# Altium schematic symbol library ECGLib.SchLib: 26 symbols
Pins are listed as number, name and electrical type; pins without a type are passive.

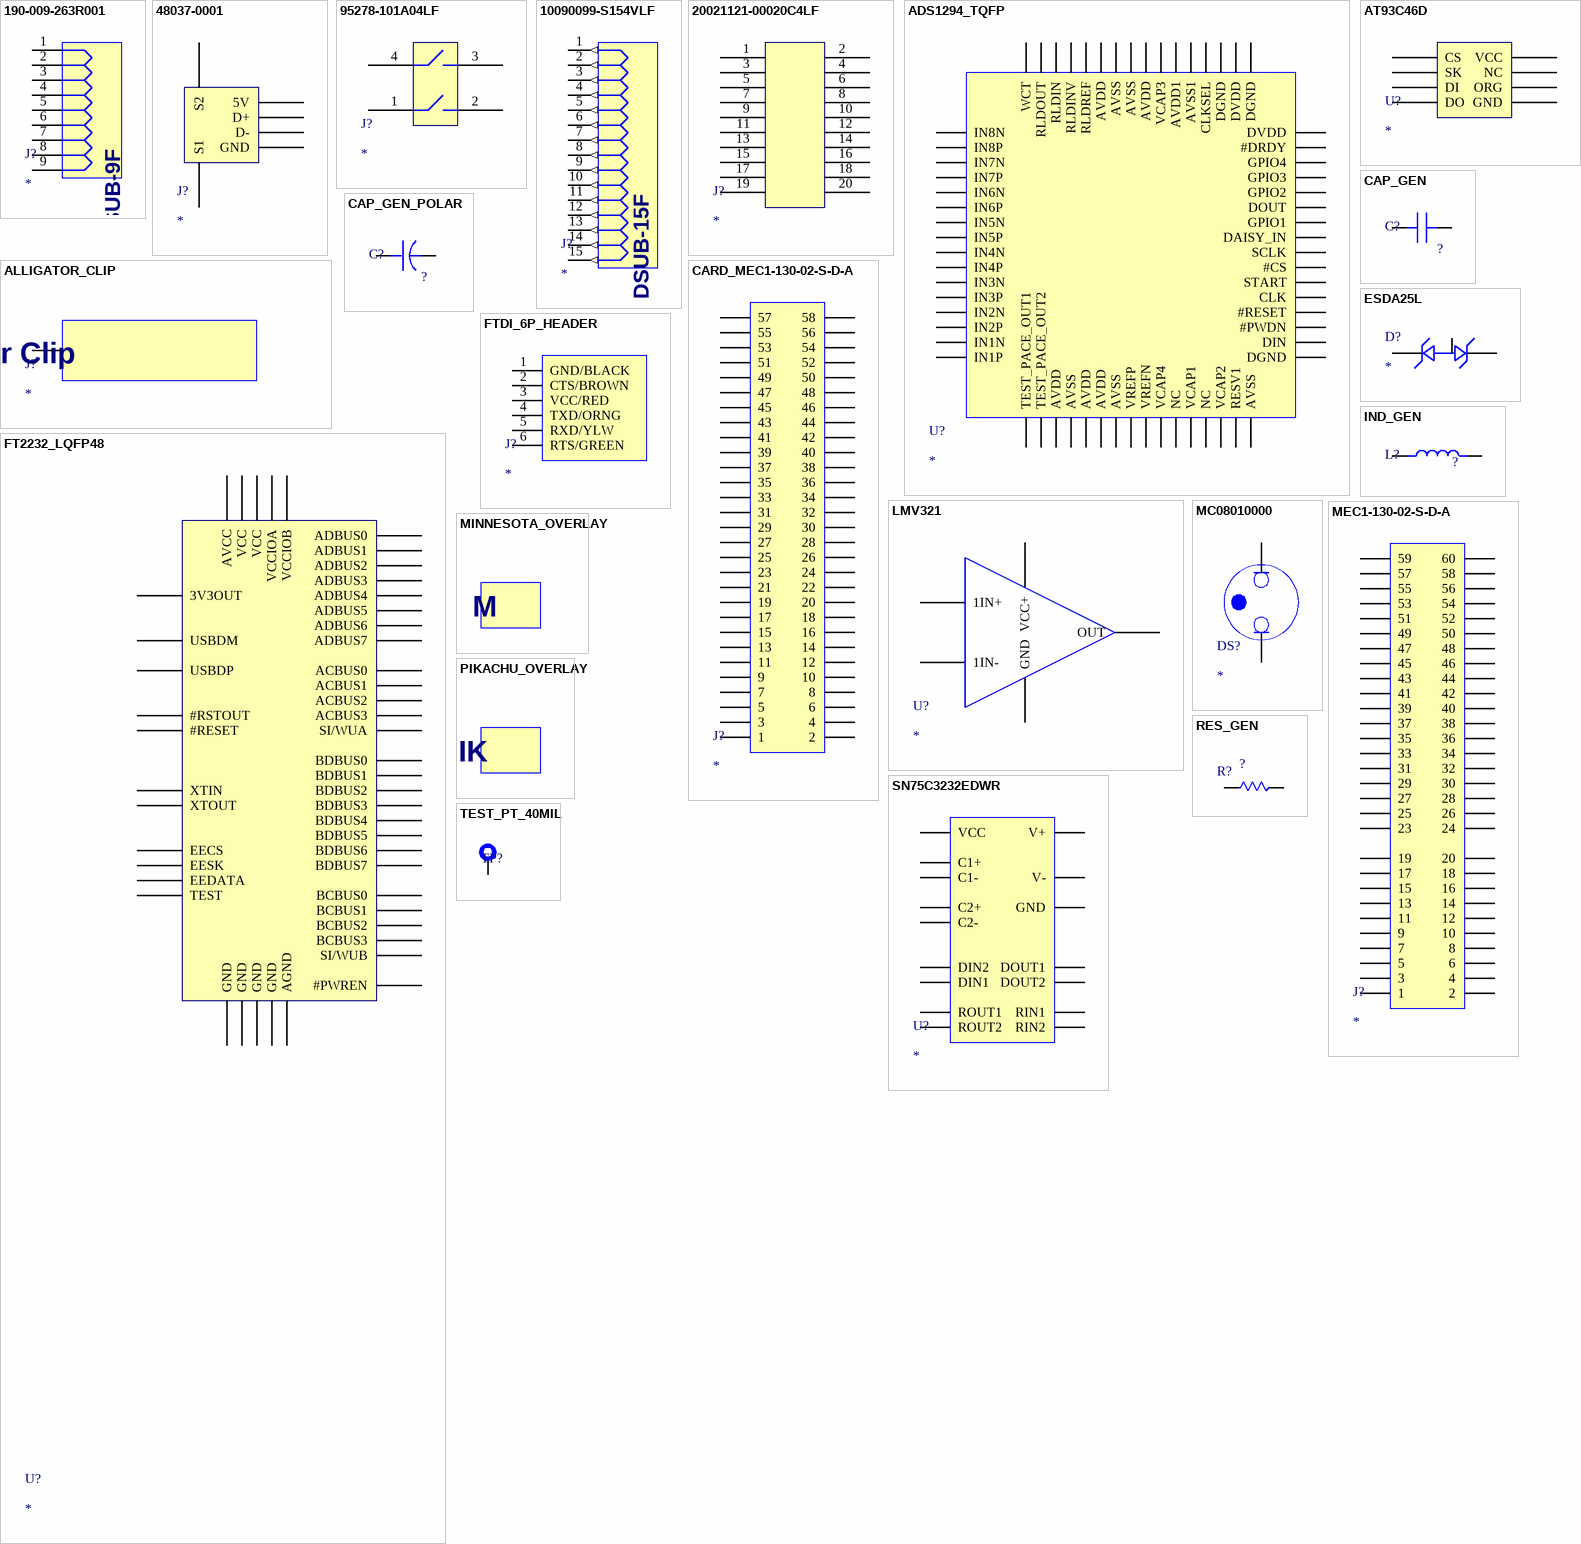
[diagram p0: symbols 190-009-263R001 to TEST_PT_40MIL]

## 190-009-263R001
designator J?
CONN DB9 FEMALE R/A SOLDER SMD; Manufacturer Part Number: 190-009-263R001; Manufacturer: Norcomp Inc
footprint 190-009-263R001 (CONN DB9 FEMALE R/A SOLDER SMD)
pins: 1, 2, 3, 4, 5, 6, 7, 8, 9
text: DSUB-9F

## 48037-0001
designator J?
CONN PLUG USB 4POS RT ANG PCB; Manufacturer: Molex; Manufacturer Part Number: 48037-0001
footprint USB_A_PLUG (CONN PLUG USB 4POS RT ANG PCB)
pins: 1 5V, 2 D+, 3 D-, 4 GND, 5 S1, 6 S2

## 95278-101A04LF
designator J?
CONN HEADER 4POS .100" DL SMD; Manufacturer: FCI; Manufacturer Part Number: 95278-101A04LF
footprint 95278-101A04LF (CONN HEADER 4POS .100" DL SMD)
pins: 1, 2, 3, 4

## 10090099-S154VLF
designator J?
CONN DSUB RCPT 15POS R/A GOLD; Manufacturer Part Number: 10090099-S154VLF; Manufacturer: FCI
footprint 10090099-S154VLF (CONN DSUB RCPT 15POS R/A GOLD)
pins: 1 (out), 2 (out), 3 (out), 4 (out), 5 (out), 6 (out), 7 (out), 8 (out), 9 (out), 10 (out), 11 (out), 12 (out), 13 (out), 14 (out), 15 (out)
text: DSUB-15F

## 20021121-00020C4LF
designator J?
CONN HEADER 20POS DL UNSHRD SMD; Manufacturer: FCI; Manufacturer Part Number: 20021121-00020C4LF
footprint 20021121-00020C4LF (CONN HEADER 20POS DL UNSHRD SMD)
pins: 1, 2, 3 2, 4 3, 5 3, 6 4, 7 4, 8 5, 9 5, 10 6, 11 6, 12 7, 13 7, 14 8, 15 8, 16 9, 17 9, 18 10, 19 10, 20 11

## ADS1294_TQFP
designator U?
IC AFE 24BIT 32KSPS 4CH 64TQFP; Manufacturer: Texas Instruments; Manufacturer Part Number: ADS1294IPAG
footprint TQFP_64_HD (TSQFP, 64-Leads, Body 12.2x12.2mm (max), Pitch 0.50mm, IPC High Density)
pins: 1 IN8N, 2 IN8P, 3 IN7N, 4 IN7P, 5 IN6N, 6 IN6P, 7 IN5N, 8 IN5P, 9 IN4N, 10 IN4P, 11 IN3N, 12 IN3P, 13 IN2N, 14 IN2P, 15 IN1N, 16 IN1P, 17 TEST_PACE_OUT1, 18 TEST_PACE_OUT2, 19 AVDD, 20 AVSS, 21 AVDD, 22 AVDD, 23 AVSS, 24 VREFP, 25 VREFN, 26 VCAP4, 27 NC, 28 VCAP1, 29 NC, 30 VCAP2, 31 RESV1, 32 AVSS, 33 DGND, 34 DIN, 35 #PWDN, 36 #RESET, 37 CLK, 38 START, 39 #CS, 40 SCLK, 41 DAISY_IN, 42 GPIO1, 43 DOUT, 44 GPIO2, 45 GPIO3, 46 GPIO4, 47 #DRDY, 48 DVDD, 49 DGND, 50 DVDD, 51 DGND, 52 CLKSEL, 53 AVSS1, 54 AVDD1, 55 VCAP3, 56 AVDD, 57 AVSS, 58 AVSS, 59 AVDD, 60 RLDREF, 61 RLDINV, 62 RLDIN, 63 RLDOUT, 64 WCT

## ALLIGATOR_CLIP
designator J?
Alligator Clip Pad
footprint ALLIGATOR_CLIP_PAD (Pad for Alligator Clip on PCB)
pins: 1
text: Alligator Clip

## AT93C46D
designator U?
IC EEPROM 1KBIT 2MHZ 8SOIC; Manufacturer: Atmel; Manufacturer Part Number: AT93C46DN-SH-B
footprint SOIC_8_HD (SOIC, 8-Leads, Body 4.92x3.90mm, Pitch 1.27mm, IPC High Density)
pins: 1 CS, 2 SK, 3 DI, 4 DO, 5 GND, 6 ORG, 7 NC, 8 VCC

## CAP_GEN
designator C?  (value not drawn)
Generic Capacitor; Manufacturer: ?; Manufacturer Part Number: ?; Value: ?
pins: 1, 2

## CAP_GEN_POLAR
designator C?  (value not drawn)
Generic Polar Capacitor; Manufacturer: ?; Manufacturer Part Number: ?; Value: ?
pins: 1, 2

## CARD_MEC1-130-02-S-D-A
designator J?
CONN EDGE CARD DL 1MM 60POS SMD; Manufacturer: Samtec
footprint CARD_MEC1-130-02-S-D-A (CONN EDGE CARD DL 1MM 60POS SMD)
pins: 1, 2, 3, 4, 5, 6, 7, 8, 9, 10, 11, 12, 13, 14, 15, 16, 17, 18, 19, 20, 21, 22, 23, 24, 25, 26, 27, 28, 29, 30, 31, 32, 33, 34, 35, 36, 37, 38, 39, 40, 41, 42, 43, 44, 45, 46, 47, 48, 49, 50, 51, 52, 53, 54, 55, 56, 57, 58

## ESDA25L
designator D?
TRANSIL ARRAY DUAL ESD SOT-23; Manufacturer Part Number: ESDA25L; Manufacturer: STMicroelectronics
footprint SOT23_3_HD (SOT23, 3-Leads, Body 3.0x2.8mm (max), Pitch 0.95mm, IPC High Density)
pins: 1, 2, 3 NC

## FT2232_LQFP48
designator U?
IC USB FS DUAL UART/FIFO 48-LQFP; Manufacturer: FTDI; Manufacturer Part Number: FT2232D
footprint LQFP_48_HD (TSQFP, 48-Leads, Body 7.00x7.00mm, Pitch 0.50mm, IPC High Density)
pins: 1 EESK, 2 EEDATA, 3 VCC, 4 #RESET, 5 #RSTOUT, 6 3V3OUT, 7 USBDP, 8 USBDM, 9 GND, 10 SI/WUA, 11 ACBUS3, 12 ACBUS2, 13 ACBUS1, 14 VCCIOA, 15 ACBUS0, 16 ADBUS7, 17 ADBUS6, 18 GND, 19 ADBUS5, 20 ADBUS4, 21 ADBUS3, 22 ADBUS2, 23 ADBUS1, 24 ADBUS0, 25 GND, 26 SI/WUB, 27 BCBUS3, 28 BCBUS2, 29 BCBUS1, 30 BCBUS0, 31 VCCIOB, 32 BDBUS7, 33 BDBUS6, 34 GND, 35 BDBUS5, 36 BDBUS4, 37 BDBUS3, 38 BDBUS2, 39 BDBUS1, 40 BDBUS0, 41 #PWREN, 42 VCC, 43 XTIN, 44 XTOUT, 45 AGND, 46 AVCC, 47 TEST, 48 EECS

## FTDI_6P_HEADER
designator J?
6 PIN FTDI HEADER; Manufacturer: Sullins Connector Solutions; Manufacturer Part Number: GEC36SBSN-M89
footprint GEC36SBSN-M89 (6PIN_0.1"_RIGHTANGLE_SM)
pins: 1 GND/BLACK, 2 CTS/BROWN, 3 VCC/RED, 4 TXD/ORNG, 5 RXD/YLW, 6 RTS/GREEN

## IND_GEN
designator L?  (value not drawn)
Generic Inductor; Manufacturer: ?; Manufacturer Part Number: ?; Value: ?
pins: 1, 2

## LMV321
designator U?
IC OPAMP GP R-R 1MHZ SGL SOT23-5; Manufacturer: Texas Instruments; Manufacturer Part Number: LMV321IDBVR
footprint SOT23_5 (SOT23, 5-Leads, Body 2.90x2.80mm, Pitch 0.95mm, IPC High Density)
pins: 1 1IN+, 2 GND, 3 1IN-, 4 OUT, 5 VCC+

## MC08010000
designator DS?
LAMP, NEON, T-1 1/4, WIRE; Manufacturer: Multicomp; Manufacturer Part Number: MC08010000
footprint MC08010000
footprint MC08010000
pins: 1, 2

## MEC1-130-02-S-D-A
designator J?
CONN EDGE CARD DL 1MM 60POS SMD; Manufacturer: Samtec; Manufacturer Part Number: MEC1-130-02-S-D-A
footprint MEC1-130-02-S-D-A (CONN EDGE CARD DL 1MM 60POS SMD)
pins: 1, 2, 3, 4, 5, 6, 7, 8, 9, 10, 11, 12, 13, 14, 15, 16, 17, 18, 19, 20, 23, 24, 25, 26, 27, 28, 29, 30, 31, 32, 33, 34, 35, 36, 37, 38, 39, 40, 41, 42, 43, 44, 45, 46, 47, 48, 49, 50, 51, 52, 53, 54, 55, 56, 57, 58, 59, 60

## MINNESOTA_OVERLAY
designator OV?  (value not drawn)
UOFM OVERLAY
footprint Minnesota
text: M

## PIKACHU_OVERLAY
designator OV?  (value not drawn)
PIKACHU BOTTOM OVERLAY
footprint PIKACHU
text: PIK

## RES_GEN
designator R?  (value not drawn)
Generic Resistor; Manufacturer: ?; Manufacturer Part Number: ?; Value: ?
pins: 1, 2

## SN75C3232EDWR
designator U?
IC LINE DRVR/RCVR RS232 16-SOIC; Manufacturer: Texas Instruments; Manufacturer Part Number: SN75C3232EDR
footprint SOIC_16_HD (SOIC, 16-Leads, Body 10.0x4.0mm (max), Pitch 1.27mm, IPC High Density)
pins: 1 C1+, 2 V+, 3 C1-, 4 C2+, 5 C2-, 6 V-, 7 DOUT2, 8 RIN2, 9 ROUT2, 10 DIN2, 11 DIN1, 12 ROUT1, 13 RIN1, 14 DOUT1, 15 GND, 16 VCC

## TEST_PT_40MIL
designator TP?  (value not drawn)
40MIL DIAM TEST POINT
footprint TP_40MIL (40mil Diameter Test Point)
pins: 1

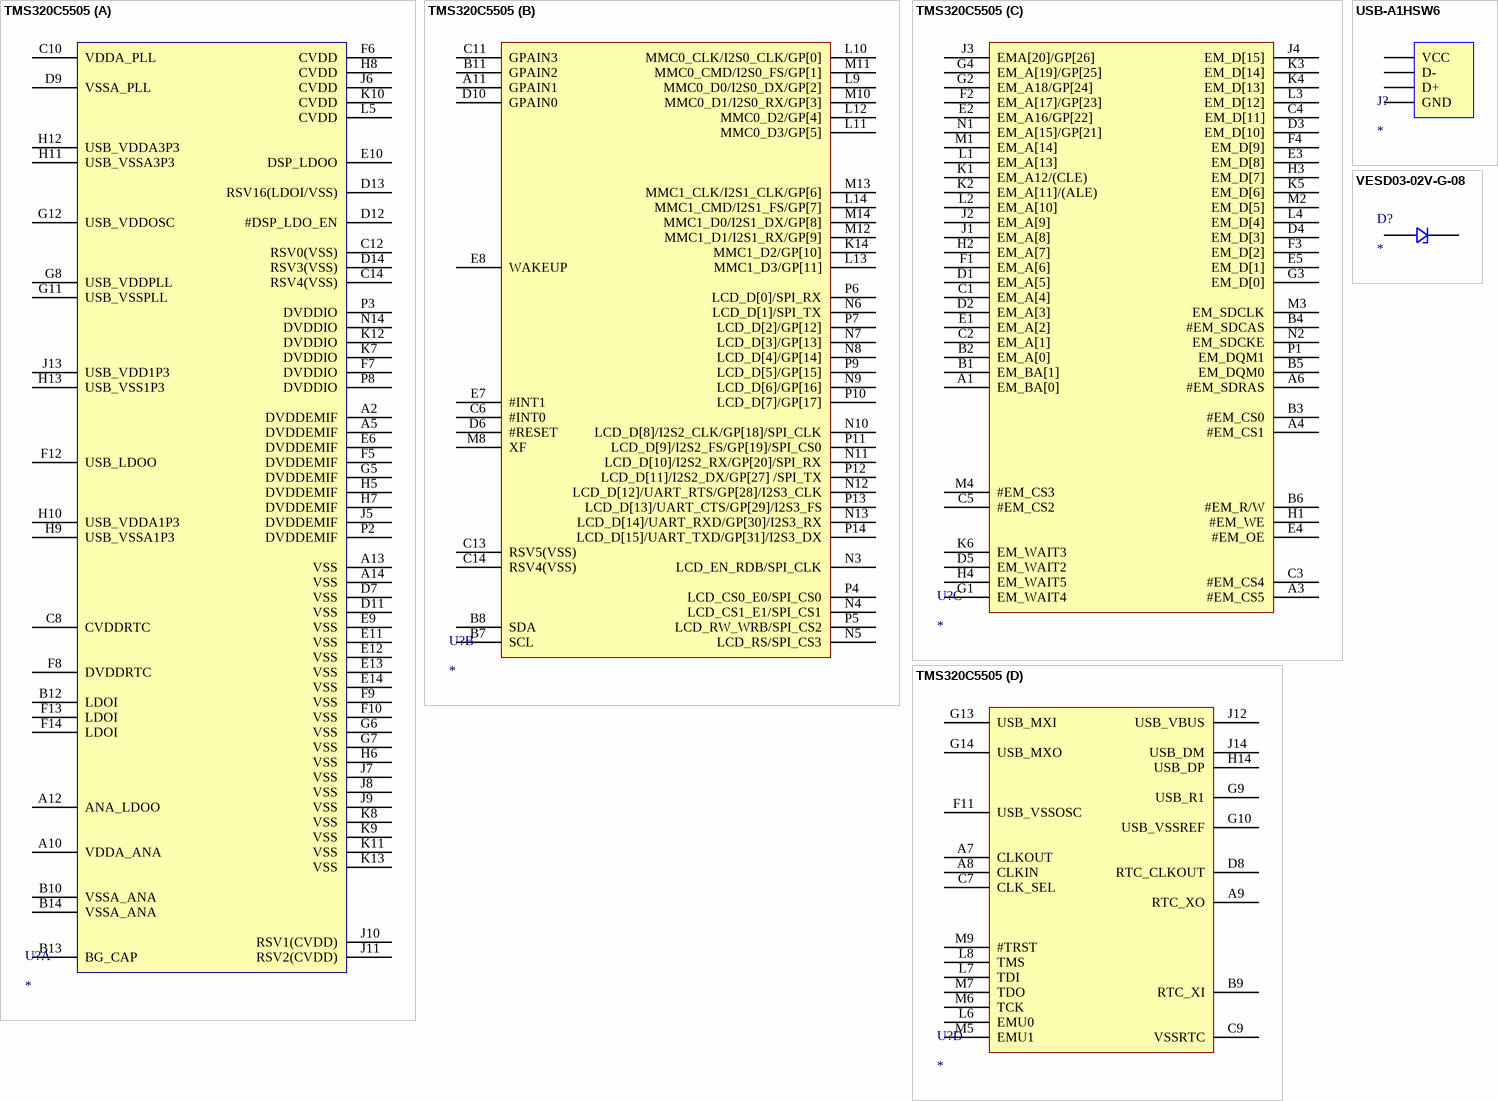
[diagram p1: symbols TMS320C5505 to VESD03-02V-G-08]

## TMS320C5505
designator U?
IC DSP FIXED POINT 196NFBGA; Manufacturer: Texas Instruments; Manufacturer Part Number: TMS320C5505
footprint NFBGA_196 (BGA, 196-Leads, Body 10.00x10.00mmx1.30mm, Pitch 0.65mm)
part A pins: A2 DVDDEMIF, A5 DVDDEMIF, A10 VDDA_ANA, A12 ANA_LDOO, A13 VSS, A14 VSS, B10 VSSA_ANA, B12 LDOI, B13 BG_CAP, B14 VSSA_ANA, C8 CVDDRTC, C10 VDDA_PLL, C12 RSV0(VSS), C14 RSV4(VSS), D7 VSS, D9 VSSA_PLL, D11 VSS, D12 #DSP_LDO_EN, D13 RSV16(LDOI/VSS), D14 RSV3(VSS), E6 DVDDEMIF, E9 VSS, E10 DSP_LDOO, E11 VSS, E12 VSS, E13 VSS, E14 VSS, F5 DVDDEMIF, F6 CVDD, F7 DVDDIO, F8 DVDDRTC, F9 VSS, F10 VSS, F12 USB_LDOO, F13 LDOI, F14 LDOI, G5 DVDDEMIF, G6 VSS, G7 VSS, G8 USB_VDDPLL, G11 USB_VSSPLL, G12 USB_VDDOSC, H5 DVDDEMIF, H6 VSS, H7 DVDDEMIF, H8 CVDD, H9 USB_VSSA1P3, H10 USB_VDDA1P3, H11 USB_VSSA3P3, H12 USB_VDDA3P3, H13 USB_VSS1P3, J5 DVDDEMIF, J6 CVDD, J7 VSS, J8 VSS, J9 VSS, J10 RSV1(CVDD), J11 RSV2(CVDD), J13 USB_VDD1P3, K7 DVDDIO, K8 VSS, K9 VSS, K10 CVDD, K11 VSS, K12 DVDDIO, K13 VSS, L5 CVDD, N14 DVDDIO, P2 DVDDEMIF, P3 DVDDIO, P8 DVDDIO
part B pins: A11 GPAIN1, B7 SCL, B8 SDA, B11 GPAIN2, C6 #INT0, C11 GPAIN3, C13 RSV5(VSS), C14 RSV4(VSS), D6 #RESET, D10 GPAIN0, E7 #INT1, E8 WAKEUP, K14 MMC1_D2/GP[10], L9 MMC0_D0/I2S0_DX/GP[2], L10 MMC0_CLK/I2S0_CLK/GP[0], L11 MMC0_D3/GP[5], L12 MMC0_D2/GP[4], L13 MMC1_D3/GP[11], L14 MMC1_CMD/I2S1_FS/GP[7], M8 XF, M10 MMC0_D1/I2S0_RX/GP[3], M11 MMC0_CMD/I2S0_FS/GP[1], M12 MMC1_D1/I2S1_RX/GP[9], M13 MMC1_CLK/I2S1_CLK/GP[6], M14 MMC1_D0/I2S1_DX/GP[8], N3 LCD_EN_RDB/SPI_CLK, N4 LCD_CS1_E1/SPI_CS1, N5 LCD_RS/SPI_CS3, N6 LCD_D[1]/SPI_TX, N7 LCD_D[3]/GP[13], N8 LCD_D[4]/GP[14], N9 LCD_D[6]/GP[16], N10 LCD_D[8]/I2S2_CLK/GP[18]/SPI_CLK, N11 LCD_D[10]/I2S2_RX/GP[20]/SPI_RX, N12 LCD_D[12]/UART_RTS/GP[28]/I2S3_CLK, N13 LCD_D[14]/UART_RXD/GP[30]/I2S3_RX, P4 LCD_CS0_E0/SPI_CS0, P5 LCD_RW_WRB/SPI_CS2, P6 LCD_D[0]/SPI_RX, P7 LCD_D[2]/GP[12], P9 LCD_D[5]/GP[15], P10 LCD_D[7]/GP[17], P11 LCD_D[9]/I2S2_FS/GP[19]/SPI_CS0, P12 LCD_D[11]/I2S2_DX/GP[27] /SPI_TX, P13 LCD_D[13]/UART_CTS/GP[29]/I2S3_FS, P14 LCD_D[15]/UART_TXD/GP[31]/I2S3_DX
part C pins: A1 EM_BA[0], A3 #EM_CS5, A4 #EM_CS1, A6 #EM_SDRAS, B1 EM_BA[1], B2 EM_A[0], B3 #EM_CS0, B4 #EM_SDCAS, B5 EM_DQM0, B6 #EM_R/W, C1 EM_A[4], C2 EM_A[1], C3 #EM_CS4, C4 EM_D[11], C5 #EM_CS2, D1 EM_A[5], D2 EM_A[3], D3 EM_D[10], D4 EM_D[3], D5 EM_WAIT2, E1 EM_A[2], E2 EM_A16/GP[22], E3 EM_D[8], E4 #EM_OE, E5 EM_D[1], F1 EM_A[6], F2 EM_A[17]/GP[23], F3 EM_D[2], F4 EM_D[9], G1 EM_WAIT4, G2 EM_A18/GP[24], G3 EM_D[0], G4 EM_A[19]/GP[25], H1 #EM_WE, H2 EM_A[7], H3 EM_D[7], H4 EM_WAIT5, J1 EM_A[8], J2 EM_A[9], J3 EMA[20]/GP[26], J4 EM_D[15], K1 EM_A12/(CLE), K2 EM_A[11]/(ALE), K3 EM_D[14], K4 EM_D[13], K5 EM_D[6], K6 EM_WAIT3, L1 EM_A[13], L2 EM_A[10], L3 EM_D[12], L4 EM_D[4], M1 EM_A[14], M2 EM_D[5], M3 EM_SDCLK, M4 #EM_CS3, N1 EM_A[15]/GP[21], N2 EM_SDCKE, P1 EM_DQM1
part D pins: A7 CLKOUT, A8 CLKIN, A9 RTC_XO, B9 RTC_XI, C7 CLK_SEL, C9 VSSRTC, D8 RTC_CLKOUT, F11 USB_VSSOSC, G9 USB_R1, G10 USB_VSSREF, G13 USB_MXI, G14 USB_MXO, H14 USB_DP, J12 USB_VBUS, J14 USB_DM, L6 EMU0, L7 TDI, L8 TMS, M5 EMU1, M6 TCK, M7 TDO, M9 #TRST

## USB-A1HSW6
designator J?
CONN USB TYPE A R/A WHITE; Manufacturer Part Number: USB-A1HSW6; Manufacturer: On-Shore Technology Inc
footprint USB_A_RECEPTACLE_TH (THROUGH HOLE USB A RECEPTACLE)
pins: 1 VCC, 2 D-, 3 D+, 4 GND

## VESD03-02V-G-08
designator D?
TVS DIODE 3V 108W SOD523; Manufacturer: Vishay Semiconductors; Manufacturer Part Number: VESD03-02V-G-08
footprint SOD-523
pins: 1, 2